# Altium footprint library Intelligent-Lighting-MasterPCBlib.PcbLib: 50 footprints (part 3 of 4)
Each footprint in its own frame and in the unit in brackets; x right, y up, seen from the top. Pads: shape width x height; smd on the part's side, far side on the other; paste and mask are expansions set on the pad; w line width, h text height; cw(c..) or ccw(c..) is an arc to the next point about the centre after c.
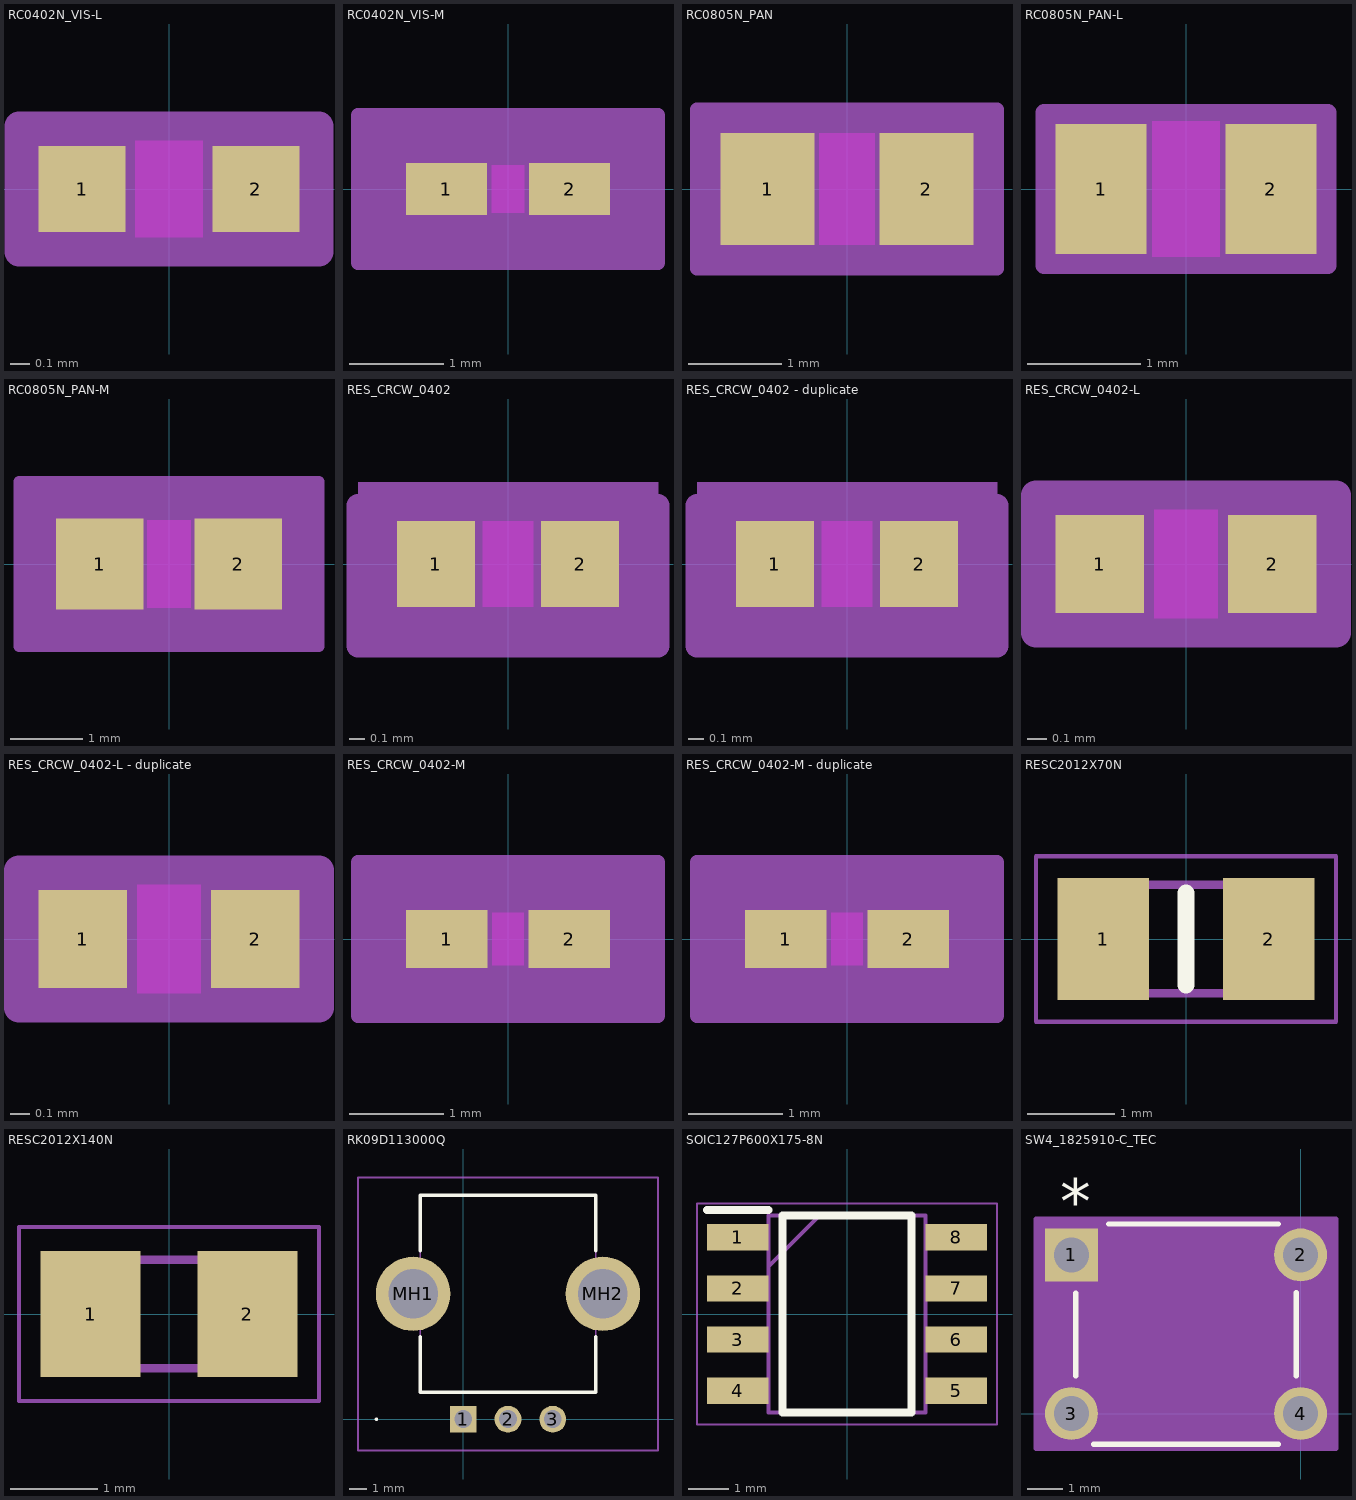
[diagram p2: the footprints below, top view; thin cyan lines are the x and y axes]

## RC0402N_VIS-L [mm]
pads (2):
  rect 0.452x0.449 smd paste+0 mask+0: 1(-0.451,0) 2(0.451,0)
Top Layer keep-out:
  region: -0.174,-0.199 -0.174,0.199 0.174,0.199 0.174,-0.199
Keep-Out Layer:
  region: -0.174,-0.25 -0.174,0.25 0.174,0.25 0.174,-0.25
Mechanical 13:
  lines w0.025: -0.525,-0.25 -0.525,0.25 ; -0.525,-0.25 0.525,-0.25 ; -0.525,-0.25 -0.225,-0.25 -0.225,0.25 -0.525,0.25 ; -0.525,-0.25 -0.525,0.25 ; -0.525,0.25 0.525,0.25 ; 0.525,-0.25 0.525,0.25 ; 0.525,-0.25 0.525,0.25 ; 0.525,-0.25 0.225,-0.25 0.225,0.25 0.525,0.25
Mechanical 15:
  region: 0.779,-0.326 -0.779,-0.326 -0.779,0.326 0.779,0.326
  lines w0.152: -0.779,-0.326 0.779,-0.326 0.779,0.326 -0.779,0.326 -0.779,-0.326
3D body "RC0402N_VIS.step": height 0.71, standoff 0, extent -0.525,-0.25 0.525,0.25

## RC0402N_VIS-M [mm]
pads (2):
  rect 0.859x0.551 smd paste+0 mask+0: 1(-0.654,0) 2(0.654,0)
Top Layer keep-out:
  region: -0.174,-0.199 -0.174,0.199 0.174,0.199 0.174,-0.199
Keep-Out Layer:
  region: -0.174,-0.25 -0.174,0.25 0.174,0.25 0.174,-0.25
Mechanical 13:
  lines w0.025: -0.525,-0.25 -0.525,0.25 ; -0.525,-0.25 0.525,-0.25 ; -0.525,-0.25 -0.225,-0.25 -0.225,0.25 -0.525,0.25 ; -0.525,-0.25 -0.525,0.25 ; -0.525,0.25 0.525,0.25 ; 0.525,-0.25 0.525,0.25 ; 0.525,-0.25 0.525,0.25 ; 0.525,-0.25 0.225,-0.25 0.225,0.25 0.525,0.25
Mechanical 15:
  region: 1.592,-0.783 -1.592,-0.783 -1.592,0.783 1.592,0.783
  lines w0.152: -1.592,-0.783 1.592,-0.783 1.592,0.783 -1.592,0.783 -1.592,-0.783
3D body "RC0402N_VIS.step": height 0.71, standoff 0, extent -0.525,-0.25 0.525,0.25

## RC0805N_PAN [mm]
pads (2):
  rect 1.006x1.2 smd paste+0 mask+0: 1(-0.853,0) 2(0.853,0)
Top Layer keep-out:
  region: -0.299,-0.549 -0.299,0.549 0.299,0.549 0.299,-0.549
Keep-Out Layer:
  region: -0.299,-0.6 -0.299,0.6 0.299,0.6 0.299,-0.6
Mechanical 13:
  lines w0.025: -1,-0.6 -1,0.6 ; -1,-0.6 -0.35,-0.6 -0.35,0.6 -1,0.6 ; -1,-0.6 1,-0.6 ; -1,-0.6 -1,0.6 ; -1,0.6 1,0.6 ; 1,-0.6 0.35,-0.6 0.35,0.6 1,0.6 ; 1,-0.6 1,0.6 ; 1,-0.6 1,0.6
Mechanical 15:
  region: 1.61,-0.854 -1.61,-0.854 -1.61,0.854 1.61,0.854
  lines w0.152: -1.61,-0.854 -1.61,0.854 1.61,0.854 1.61,-0.854 -1.61,-0.854
3D body "RC0805N_PAN.step": height 0.71, standoff 0, extent -1,-0.6 1,0.6

## RC0805N_PAN-L [mm]
pads (2):
  rect 0.802x1.149 smd paste+0 mask+0: 1(-0.751,0) 2(0.751,0)
Top Layer keep-out:
  region: -0.299,-0.549 -0.299,0.549 0.299,0.549 0.299,-0.549
Keep-Out Layer:
  region: -0.299,-0.6 -0.299,0.6 0.299,0.6 0.299,-0.6
Mechanical 13:
  lines w0.025: -1,-0.6 -1,0.6 ; -1,-0.6 1,-0.6 ; -1,-0.6 -0.35,-0.6 -0.35,0.6 -1,0.6 ; -1,-0.6 -1,0.6 ; -1,0.6 1,0.6 ; 1,-0.6 1,0.6 ; 1,-0.6 1,0.6 ; 1,-0.6 0.35,-0.6 0.35,0.6 1,0.6
Mechanical 15:
  region: 1.254,-0.676 -1.254,-0.676 -1.254,0.676 1.254,0.676
  lines w0.152: -1.254,-0.676 1.254,-0.676 1.254,0.676 -1.254,0.676 -1.254,-0.676
3D body "RC0805N_PAN.step": height 0.71, standoff 0, extent -1,-0.6 1,0.6

## RC0805N_PAN-M [mm]
pads (2):
  rect 1.209x1.251 smd paste+0 mask+0: 1(-0.954,0) 2(0.954,0)
Top Layer keep-out:
  region: -0.299,-0.549 -0.299,0.549 0.299,0.549 0.299,-0.549
Keep-Out Layer:
  region: -0.299,-0.6 -0.299,0.6 0.299,0.6 0.299,-0.6
Mechanical 13:
  lines w0.025: -1,-0.6 -1,0.6 ; -1,-0.6 -0.35,-0.6 -0.35,0.6 -1,0.6 ; -1,-0.6 1,-0.6 ; -1,-0.6 -1,0.6 ; -1,0.6 1,0.6 ; 1,-0.6 0.35,-0.6 0.35,0.6 1,0.6 ; 1,-0.6 1,0.6 ; 1,-0.6 1,0.6
Mechanical 15:
  region: 2.067,-1.133 -2.067,-1.133 -2.067,1.133 2.067,1.133
  lines w0.152: -2.067,-1.133 -2.067,1.133 2.067,1.133 2.067,-1.133 -2.067,-1.133
3D body "RC0805N_PAN.step": height 0.71, standoff 0, extent -1,-0.6 1,0.6

## RES_CRCW_0402 [mil]
pads (2):
  rect 20x22 smd paste-11 mask-11: 1(-18.5,0) 2(18.5,0)
Top Layer keep-out:
  region: -6.5,-9 -6.5,9 6.5,9 6.5,-9
Keep-Out Layer:
  region: -6.5,-11 -6.5,11 6.5,11 6.5,-11
Mechanical 13:
  lines w1: -20.5,-11 -20.5,11 ; -20.5,-11 -8.5,-11 -8.5,11 -20.5,11 ; -20.5,-11 20.5,-11 ; -20.5,-11 -20.5,11 ; -20.5,11 20.5,11 ; 20.5,-11 8.5,-11 8.5,11 20.5,11 ; 20.5,-11 20.5,11 ; 20.5,-11 20.5,11
Mechanical 15:
  region: 38.5,-21 -38.5,-21 -38.5,21 38.5,21
  lines w6: -38.5,-21 -38.5,15 38.5,15 38.5,-21 -38.5,-21
3D body "RES_CRCW_0402.step": height 15.98, standoff 0, extent -20.51,-10.98 20.51,10.98

## RES_CRCW_0402 - duplicate [mil]
pads (2):
  rect 20x22 smd paste-11 mask-11: 1(-18.5,0) 2(18.5,0)
Top Layer keep-out:
  region: -6.5,-9 -6.5,9 6.5,9 6.5,-9
Keep-Out Layer:
  region: -6.5,-11 -6.5,11 6.5,11 6.5,-11
Mechanical 13:
  lines w1: -20.5,-11 -20.5,11 ; -20.5,-11 -8.5,-11 -8.5,11 -20.5,11 ; -20.5,-11 20.5,-11 ; -20.5,-11 -20.5,11 ; -20.5,11 20.5,11 ; 20.5,-11 8.5,-11 8.5,11 20.5,11 ; 20.5,-11 20.5,11 ; 20.5,-11 20.5,11
Mechanical 15:
  region: 38.5,-21 -38.5,-21 -38.5,21 38.5,21
  lines w6: -38.5,-21 -38.5,15 38.5,15 38.5,-21 -38.5,-21
3D body "RES_CRCW_0402.step": height 15.98, standoff 0, extent -20.51,-10.98 20.51,10.98

## RES_CRCW_0402-L [mil]
pads (2):
  rect 18x20 smd paste+0 mask+0: 1(-17.5,0) 2(17.5,0)
Top Layer keep-out:
  region: -6.5,-9 -6.5,9 6.5,9 6.5,-9
Keep-Out Layer:
  region: -6.5,-11 -6.5,11 6.5,11 6.5,-11
Mechanical 13:
  lines w1: -20.5,-11 -20.5,11 ; -20.5,-11 20.5,-11 ; -20.5,-11 -8.5,-11 -8.5,11 -20.5,11 ; -20.5,-11 -20.5,11 ; -20.5,11 20.5,11 ; 20.5,-11 20.5,11 ; 20.5,-11 20.5,11 ; 20.5,-11 8.5,-11 8.5,11 20.5,11
Mechanical 15:
  region: 30.5,-14 -30.5,-14 -30.5,14 30.5,14
  lines w6: -30.5,-14 30.5,-14 30.5,14 -30.5,14 -30.5,-14
3D body "RES_CRCW_0402.step": height 15.98, standoff 0, extent -20.51,-10.98 20.51,10.98

## RES_CRCW_0402-L - duplicate [mil]
pads (2):
  rect 18x20 smd paste+0 mask+0: 1(-17.5,0) 2(17.5,0)
Top Layer keep-out:
  region: -6.5,-9 -6.5,9 6.5,9 6.5,-9
Keep-Out Layer:
  region: -6.5,-11 -6.5,11 6.5,11 6.5,-11
Mechanical 13:
  lines w1: -20.5,-11 -20.5,11 ; -20.5,-11 20.5,-11 ; -20.5,-11 -8.5,-11 -8.5,11 -20.5,11 ; -20.5,-11 -20.5,11 ; -20.5,11 20.5,11 ; 20.5,-11 20.5,11 ; 20.5,-11 20.5,11 ; 20.5,-11 8.5,-11 8.5,11 20.5,11
Mechanical 15:
  region: 30.5,-14 -30.5,-14 -30.5,14 30.5,14
  lines w6: -30.5,-14 30.5,-14 30.5,14 -30.5,14 -30.5,-14
3D body "RES_CRCW_0402.step": height 15.98, standoff 0, extent -20.51,-10.98 20.51,10.98

## RES_CRCW_0402-M [mil]
pads (2):
  rect 34x24 smd paste+0 mask+0: 1(-25.5,0) 2(25.5,0)
Top Layer keep-out:
  region: -6.5,-9 -6.5,9 6.5,9 6.5,-9
Keep-Out Layer:
  region: -6.5,-11 -6.5,11 6.5,11 6.5,-11
Mechanical 13:
  lines w1: -20.5,-11 -20.5,11 ; -20.5,-11 20.5,-11 ; -20.5,-11 -8.5,-11 -8.5,11 -20.5,11 ; -20.5,-11 -20.5,11 ; -20.5,11 20.5,11 ; 20.5,-11 20.5,11 ; 20.5,-11 20.5,11 ; 20.5,-11 8.5,-11 8.5,11 20.5,11
Mechanical 15:
  region: 62.5,-32 -62.5,-32 -62.5,32 62.5,32
  lines w6: -62.5,-32 62.5,-32 62.5,32 -62.5,32 -62.5,-32
3D body "RES_CRCW_0402.step": height 15.98, standoff 0, extent -20.51,-10.98 20.51,10.98

## RES_CRCW_0402-M - duplicate [mil]
pads (2):
  rect 34x24 smd paste+0 mask+0: 1(-25.5,0) 2(25.5,0)
Top Layer keep-out:
  region: -6.5,-9 -6.5,9 6.5,9 6.5,-9
Keep-Out Layer:
  region: -6.5,-11 -6.5,11 6.5,11 6.5,-11
Mechanical 13:
  lines w1: -20.5,-11 -20.5,11 ; -20.5,-11 20.5,-11 ; -20.5,-11 -8.5,-11 -8.5,11 -20.5,11 ; -20.5,-11 -20.5,11 ; -20.5,11 20.5,11 ; 20.5,-11 20.5,11 ; 20.5,-11 20.5,11 ; 20.5,-11 8.5,-11 8.5,11 20.5,11
Mechanical 15:
  region: 62.5,-32 -62.5,-32 -62.5,32 62.5,32
  lines w6: -62.5,-32 62.5,-32 62.5,32 -62.5,32 -62.5,-32
3D body "RES_CRCW_0402.step": height 15.98, standoff 0, extent -20.51,-10.98 20.51,10.98

## RESC2012X70N [mm]
pads (2):
  rect 1.05x1.4 smd: 1(-0.95,0) 2(0.95,0)
Top Overlay:
  lines w0.2: 0,-0.525 0,0.525
Mechanical 13:
  lines w0.1: -1,-0.625 -1,0.625 1,0.625 1,-0.625 -1,-0.625
Mechanical 15:
  lines w0.05: -1.725,-0.95 -1.725,0.95 1.725,0.95 1.725,-0.95 -1.725,-0.95
3D body "ERJ-S06J103V.stp": height 0.6, standoff 0, extent -1,-0.625 1,0.625

## RESC2012X140N [mm]
pads (2):
  rect 1.15x1.45 smd: 1(-0.9,0) 2(0.9,0)
Mechanical 13:
  lines w0.1: -1.005,-0.625 1.005,-0.625 1.005,0.625 -1.005,0.625 -1.005,-0.625
Mechanical 15:
  lines w0.05: -1.725,-1 1.725,-1 1.725,1 -1.725,1 -1.725,-1
3D body "08055C105JAT2A.stp": height 1.4, standoff 0, extent -1.005,-0.625 1.005,0.625

## RK09D113000Q [mm]
pads (5):
  rect 1.5x1.5 hole 1: 1(0,0)
  round 1.5 hole 1: 2(2.5,0) 3(5,0)
  round 4.155 hole 2.77: MH1(-2.8,7) MH2(7.8,7)
Top Overlay:
  lines w0.1: -4.9,0 ccw(c-4.85,0) -4.8,0 ccw(c-4.85,0) -4.9,0
  lines w0.2: -2.4,4.6 -2.4,1.5 7.4,1.5 7.4,4.6 ; -2.4,9.4 -2.4,12.5 7.4,12.5 7.4,9.4
Mechanical 13:
  lines w0.1: -2.4,1.5 -2.4,12.5 7.4,12.5 7.4,1.5 -2.4,1.5
Mechanical 15:
  lines w0.1: -5.877,-1.75 -5.877,13.5 10.877,13.5 10.877,-1.75 -5.877,-1.75
3D body "RK09D113000Q.stp": height 25.1, standoff -5, extent -4.085,-0.397 9.085,12.5

## SOIC127P600X175-8N [mm]
pads (8):
  rect 1.525x0.65 smd: 1(-2.712,1.905) 2(-2.712,0.635) 3(-2.712,-0.635) 4(-2.712,-1.905) 5(2.712,-1.905) 6(2.712,-0.635) 7(2.712,0.635) 8(2.712,1.905)
Top Overlay:
  lines w0.2: -3.475,2.58 -1.95,2.58 ; -1.6,-2.45 1.6,-2.45 1.6,2.45 -1.6,2.45 -1.6,-2.45
Mechanical 13:
  lines w0.1: -1.95,1.18 -0.68,2.45 ; -1.95,-2.45 1.95,-2.45 1.95,2.45 -1.95,2.45 -1.95,-2.45
Mechanical 15:
  lines w0.05: -3.725,-2.75 3.725,-2.75 3.725,2.75 -3.725,2.75 -3.725,-2.75
3D body "NE555DR.stp": height 1.75, standoff 0, extent -3,-2.45 3,2.45

## SW4_1825910-C_TEC [mil]
pads (4):
  rect 59x59 / inner round 60 / far side rect 59x59 hole 39 paste-99999 mask+0: 1(-255.91,177.17)
  round 59 / inner round 60 / far side round 59 hole 39 paste-99999 mask-29.5: 2(0,177.17) 3(-255.91,0) 4(0,0)
Top Overlay:
  lines w6: -250.95,42.31 -250.95,134.57 ; -230.8,-34.42 -25.1,-34.42 ; -214.26,211.58 -25.1,211.58 ; -4.95,42.31 -4.95,134.85
  text "*" at -268.41,211.67 h50
Mechanical 13:
  lines w0: -139.95,206.58 ccw(c-127.95,206.58) -115.95,206.58
  lines w1: -275.41,-19.5 -275.41,19.5 -245.95,19.5 -245.95,-19.5 -275.41,-19.5 ; -275.41,157.67 -275.41,196.67 -245.95,196.67 -245.95,157.67 -275.41,157.67 ; -245.95,-29.42 -9.95,-29.42 -9.95,206.58 -245.95,206.58 -245.95,-29.42 ; -9.95,-19.5 -9.95,19.5 19.5,19.5 19.5,-19.5 -9.95,-19.5 ; -9.95,157.67 -9.95,196.67 19.5,196.67 19.5,157.67 -9.95,157.67
  text "*" at -222.5,155 h50
Mechanical 15:
  region: 0,-39 39.5,-39 39.5,217 0,217 0,216.58 -255.95,216.58 -255.91,217 -295.41,217 -295.41,-39 -255.91,-39 -255.95,-39.42 0,-39.42
  lines w6: -295.41,-39 -295.41,217 39.5,217 39.5,-39 -295.41,-39